# Altium integrated library TI Power Management DC-DC Controller (External Switch).IntLib: 349 symbols (part 15 of 28)
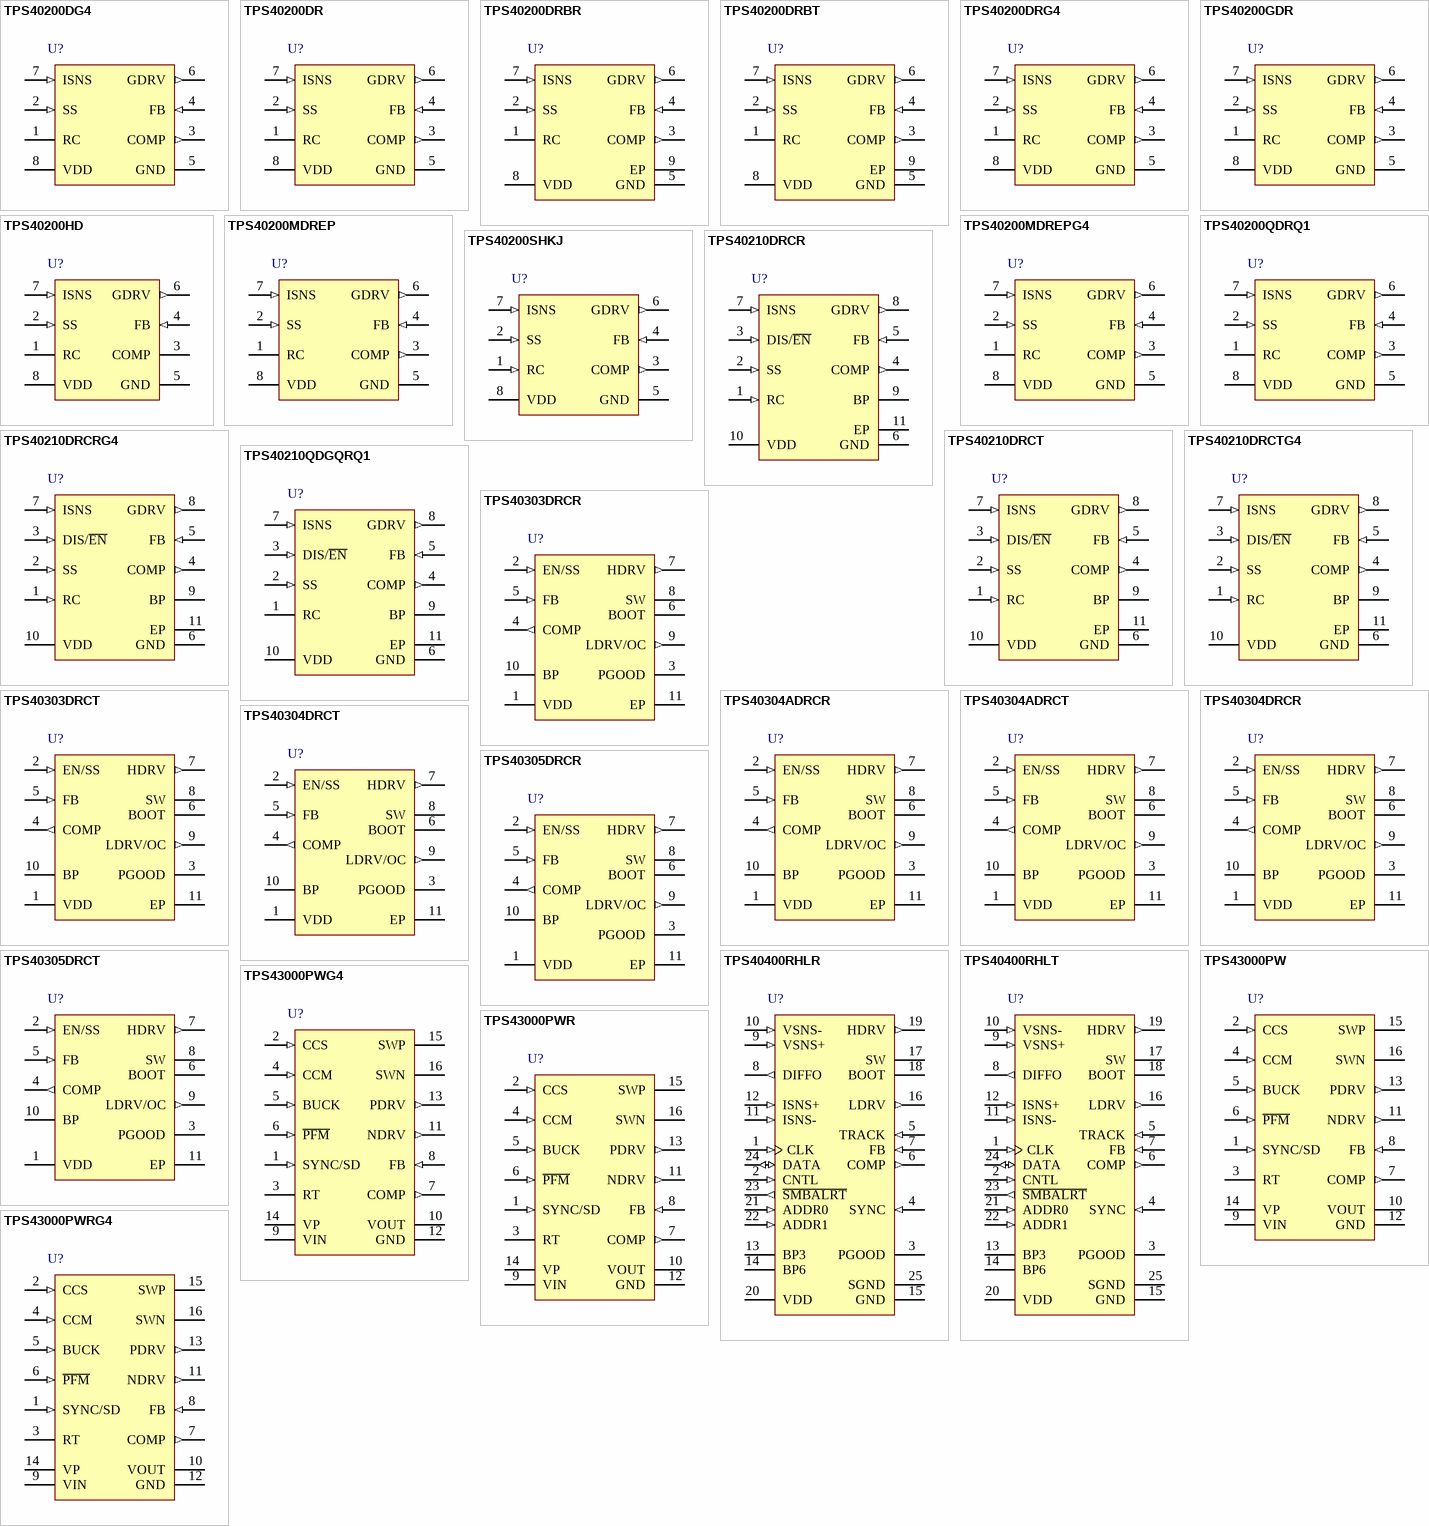
[diagram p28: symbols TPS40200DG4 to TPS43000PWRG4]

## TPS40200GDR
designator U?
Wide Input Non-Synchronous Buck DC / DC Controller, 90 % Duty Cycle, 4.5 to 52 V, -40 to 85 degC, 8-pin SOIC (D), Green (RoHS & no Sb/Br); Manufacturer: Texas Instruments; PartNumber: TPS40200GDR; Duty Cycle(Max)(%): 90; Iout(Max)(A): 3; Regulated Outputs(#): 1; SubFamily: Step-Down Controller; Switching Frequency(Max)(kHz): 500; Vin(Max)(V): 52; Vin(Min)(V): 4.5; Vout(Max)(V): 46; Vout(Min)(V): 0.7; DatasheetVersion: SLUS659F; PackageVersion: revM, Jun-2011; PackageReference: D8; PackageDescription: 8-Pin Plastic Small Outline Integrated Circuit, 4.9 x 3.9 mm, Pitch 1.27 mm Pitch; Supplier 1: Digi-Key; Supplier Part Number 1: 296-30241-2-ND; Supplier 2: Digi-Key; Supplier Part Number 2: 296-30241-1-ND; Supplier 3: Digi-Key; Supplier Part Number 3: 296-30241-6-ND; Supplier 4: Farnell; Supplier Part Number 4: 2095827; Supplier 5: Newark; Supplier Part Number 5: 91T5121; Supplier 6: Newark; Supplier Part Number 6: 87T3987; Supplier 7: Mouser; Supplier Part Number 7: 595-TPS40200GDR; Eco-Plan: Green (RoHS & no Sb/Br); Iout2(A): 3; Topology: Buck; Mounting Technology: Surface Mount; Code_JEDEC: MS-012AA; ComponentLink1Description: Datasheet; ComponentLink1URL: http://www.ti.com/general/docs/lit/getliterature.tsp?genericPartNumber=TPS40200&fileType=pdf; ComponentLink2Description: Package Specification; ComponentLink2URL: http://www.ti.com/litv/pdf/msoi002j
footprint D8_N (SOIC, 8-Leads, Body 4.9x3.9mm, Pitch 1.27mm, IPC Medium Density)
footprint D8_L (SOIC, 8-Leads, Body 4.9x3.9mm, Pitch 1.27mm, IPC High Density)
footprint D8_M (SOIC, 8-Leads, Body 4.9x3.9mm, Pitch 1.27mm, IPC Low Density)
pins: 1 RC "Switching frequency setting RC network. Connect a capacitor from the RC pin to the GND pin and connect a resistor from the VDD pin to the RC pin. The device may be synchronized to an external clock by connecting an open (See Datasheet)", 2 SS (in) "Soft-start programming pin. Connect capacitor from SS to GND to program soft start time. Pulling this pin below 150 mV causes the output switching to stop, placing the device in a shutdown state. The pin also functions as a (See Datasheet)", 3 COMP (out) "Error amplifier output. Connect control loop compensation network from COMP to FB.", 4 FB (in) "Error amplifier inverting input. Connect feedback resistor network center tap to this pin.", 5 GND (power) "Device ground.", 6 GDRV (out) "Driver output for external P-channel MOSFET", 7 ISNS (in) "Current-sense comparator input. Connect a current sense resistor between ISNS and VDD in order to set desired overcurrent threshold.", 8 VDD (power) "System input voltage. Connect local bypass capacitor from VDD to GND."

## TPS40200HD
designator U?
High Temperature Wide Input Non-Synchronous Buck DC / DC Controller, 4.5 to 52 V, -55 to 175 degC, 8-pin SOIC (D), Green (RoHS & no Sb/Br); Manufacturer: Texas Instruments; PartNumber: TPS40200HD; Iout(Max)(A): 3; Regulated Outputs(#): 1; SubFamily: Step-Down Controller; Switching Frequency(Max)(kHz): 500; Vin(Max)(V): 52; Vin(Min)(V): 4.5; Vout(Max)(V): 46; Vout(Min)(V): 0.7; DatasheetVersion: SGLS400B; PackageVersion: revM, Jun-2011; PackageReference: D8; PackageDescription: 8-Pin Plastic Small Outline Integrated Circuit, 4.9 x 3.9 mm, Pitch 1.27 mm Pitch; Supplier 1: Digi-Key; Supplier Part Number 1: 296-28290-5-ND; Supplier 2: Newark; Supplier Part Number 2: 72R6636; Supplier 3: Mouser; Supplier Part Number 3: 595-TPS40200HD; Eco-Plan: Green (RoHS & no Sb/Br); Topology: Buck; Mounting Technology: Surface Mount; Code_JEDEC: MS-012AA; ComponentLink1Description: Datasheet; ComponentLink1URL: http://www.ti.com/general/docs/lit/getliterature.tsp?genericPartNumber=TPS40200-HT&fileType=pdf; ComponentLink2Description: Package Specification; ComponentLink2URL: http://www.ti.com/litv/pdf/msoi002j
footprint D8_N (SOIC, 8-Leads, Body 4.9x3.9mm, Pitch 1.27mm, IPC Medium Density)
footprint D8_L (SOIC, 8-Leads, Body 4.9x3.9mm, Pitch 1.27mm, IPC High Density)
footprint D8_M (SOIC, 8-Leads, Body 4.9x3.9mm, Pitch 1.27mm, IPC Low Density)
pins: 1 RC "Switching frequency-setting RC network. Connect capacitor from RC pin to GND pin and resistor from VIN pin to RC pin. The device may be synchronized to an external clock by connecting an open-drain output to this pin and (See Datasheet)", 2 SS (in) "Soft-start programming pin. Connect capacitor from SS to GND to program soft-start time. Pulling this pin below 150 mV causes the output switching to stop, placing the device in a shutdown state. The pin also functions as a (See Datasheet)", 3 COMP "Compensation. Error amplifier output. Connect control-loop compensation network from COMP to FB.", 4 FB (in) "Feedback. Error amplifier inverting input. Connect feedback resistor network center tap to this pin.", 5 GND (power) "Device ground", 6 GDRV (out) "Driver output for external P-channel MOSFET", 7 ISNS (in) "Output voltage.", 8 VDD (power) "System input voltage. Connect local bypass capacitor from VDD to GND."

## TPS40200MDREP
designator U?
Enhanced Product Wide-Input-Range Non-Synchronous Voltage-Mode Controller, 90 % Duty Cycle, 4.5 to 52 V, -55 to 125 degC, 8-pin SOIC (D), Green (RoHS & no Sb/Br); Manufacturer: Texas Instruments; PartNumber: TPS40200MDREP; Duty Cycle(Max)(%): 90; Iout(Max)(A): 3; Regulated Outputs(#): 1; SubFamily: Step-Down Controller; Topology: Buck; Vin(Max)(V): 52; Vin(Min)(V): 4.5; Vout(Max)(V): 46; Vout(Min)(V): 0.7; DatasheetVersion: SGLS371; PackageVersion: revM, Jun-2011; PackageReference: D8; PackageDescription: 8-Pin Plastic Small Outline Integrated Circuit, 4.9 x 3.9 mm, Pitch 1.27 mm Pitch; Supplier 1: Digi-Key; Supplier Part Number 1: 296-22446-2-ND; Supplier 2: Digi-Key; Supplier Part Number 2: 296-22446-1-ND; Supplier 3: Digi-Key; Supplier Part Number 3: 296-22446-6-ND; Supplier 4: Newark; Supplier Part Number 4: 46M1110; Supplier 5: Newark; Supplier Part Number 5: 66M7864; Supplier 6: Mouser; Supplier Part Number 6: 595-TPS40200MDREP; Eco-Plan: Green (RoHS & no Sb/Br); Mounting Technology: Surface Mount; Code_JEDEC: MS-012AA; ComponentLink1Description: Datasheet; ComponentLink1URL: http://www.ti.com/general/docs/lit/getliterature.tsp?genericPartNumber=TPS40200-EP&fileType=pdf; ComponentLink2Description: Package Specification; ComponentLink2URL: http://www.ti.com/litv/pdf/msoi002j
footprint D8_N (SOIC, 8-Leads, Body 4.9x3.9mm, Pitch 1.27mm, IPC Medium Density)
footprint D8_L (SOIC, 8-Leads, Body 4.9x3.9mm, Pitch 1.27mm, IPC High Density)
footprint D8_M (SOIC, 8-Leads, Body 4.9x3.9mm, Pitch 1.27mm, IPC Low Density)
pins: 1 RC "Switching frequency-setting RC network. Connect capacitor from RC pin to GND pin and resistor from VINpin to RC pin. The device may be synchronized to an external clock by connecting an open-drain output tothis pin and (See Datasheet)", 2 SS (in) "Soft-start programming pin. Connect capacitor from SS to GND to program soft-start time. Pulling this pin SS 2 I below 150 mV causes the output switching to stop, placing the device in a shutdown state. The pin also (See Datasheet)", 3 COMP (out) "Compensation. Error amplifier output. Connect control-loop compensation network from COMP to FB.", 4 FB (in) "Feedback. Error amplifier inverting input. Connect feedback resistor network center tap to this pin.", 5 GND (power) "Device ground", 6 GDRV (out) "Driver output for external P-channel MOSFET", 7 ISNS (in) "Current-sense comparator input , Connect a current sense resistor between ISNS and VDD in order to set desired overcurrent threshold.", 8 VDD (power) "System input voltage. Connect local bypass capacitor from VDD to GND."

## TPS40200MDREPG4
designator U?
Enhanced Product Wide-Input-Range Non-Synchronous Voltage-Mode Controller, 90 % Duty Cycle, 4.5 to 52 V, -55 to 125 degC, 8-pin SOIC (D), Green (RoHS & no Sb/Br); Manufacturer: Texas Instruments; PartNumber: TPS40200MDREPG4; Duty Cycle(Max)(%): 90; Iout(Max)(A): 3; Regulated Outputs(#): 1; SubFamily: Step-Down Controller; Topology: Buck; Vin(Max)(V): 52; Vin(Min)(V): 4.5; Vout(Max)(V): 46; Vout(Min)(V): 0.7; DatasheetVersion: SGLS371; PackageVersion: revM, Jun-2011; PackageReference: D8; PackageDescription: 8-Pin Plastic Small Outline Integrated Circuit, 4.9 x 3.9 mm, Pitch 1.27 mm Pitch; Supplier 1: Digi-Key; Supplier Part Number 1: TPS40200MDREPG4-ND; Supplier 2: Mouser; Supplier Part Number 2: 595-TPS40200MDREPG4; Eco-Plan: Green (RoHS & no Sb/Br); Mounting Technology: Surface Mount; Code_JEDEC: MS-012AA; ComponentLink1Description: Datasheet; ComponentLink1URL: http://www.ti.com/general/docs/lit/getliterature.tsp?genericPartNumber=TPS40200-EP&fileType=pdf; ComponentLink2Description: Package Specification; ComponentLink2URL: http://www.ti.com/litv/pdf/msoi002j
footprint D8_N (SOIC, 8-Leads, Body 4.9x3.9mm, Pitch 1.27mm, IPC Medium Density)
footprint D8_L (SOIC, 8-Leads, Body 4.9x3.9mm, Pitch 1.27mm, IPC High Density)
footprint D8_M (SOIC, 8-Leads, Body 4.9x3.9mm, Pitch 1.27mm, IPC Low Density)
pins: 1 RC "Switching frequency-setting RC network. Connect capacitor from RC pin to GND pin and resistor from VINpin to RC pin. The device may be synchronized to an external clock by connecting an open-drain output tothis pin and (See Datasheet)", 2 SS (in) "Soft-start programming pin. Connect capacitor from SS to GND to program soft-start time. Pulling this pin SS 2 I below 150 mV causes the output switching to stop, placing the device in a shutdown state. The pin also (See Datasheet)", 3 COMP (out) "Compensation. Error amplifier output. Connect control-loop compensation network from COMP to FB.", 4 FB (in) "Feedback. Error amplifier inverting input. Connect feedback resistor network center tap to this pin.", 5 GND (power) "Device ground", 6 GDRV (out) "Driver output for external P-channel MOSFET", 7 ISNS (in) "Current-sense comparator input , Connect a current sense resistor between ISNS and VDD in order to set desired overcurrent threshold.", 8 VDD (power) "System input voltage. Connect local bypass capacitor from VDD to GND."

## TPS40200QDRQ1
designator U?
Automotive Catalog Wide-Input-Range Non-Synchronous Voltage-Mode Controller, 90 % Duty Cycle, 4.5 to 52 V, -40 to 125 degC, 8-pin SOIC (D), Green (RoHS & no Sb/Br); Manufacturer: Texas Instruments; PartNumber: TPS40200QDRQ1; Duty Cycle(Max)(%): 90; Iout(Max)(A): 0.3; Regulated Outputs(#): 1; SubFamily: Step-Down Controller; Switching Frequency(Max)(kHz): 500; Topology: Buck; Vin(Max)(V): 52; Vin(Min)(V): 4.5; Vout(Max)(V): 46; Vout(Min)(V): 0.7; DatasheetVersion: SLUS739D; PackageVersion: revM, Jun-2011; PackageReference: D8; PackageDescription: 8-Pin Plastic Small Outline Integrated Circuit, 4.9 x 3.9 mm, Pitch 1.27 mm Pitch; Supplier 1: Digi-Key; Supplier Part Number 1: 296-23024-2-ND; Supplier 2: Digi-Key; Supplier Part Number 2: 296-23024-1-ND; Supplier 3: Digi-Key; Supplier Part Number 3: 296-23024-6-ND; Supplier 4: Newark; Supplier Part Number 4: 85M0222; Supplier 5: Mouser; Supplier Part Number 5: 595-TPS40200QDRQ1; Eco-Plan: Green (RoHS & no Sb/Br); Mounting Technology: Surface Mount; Code_JEDEC: MS-012AA; ComponentLink1Description: Datasheet; ComponentLink1URL: http://www.ti.com/general/docs/lit/getliterature.tsp?genericPartNumber=TPS40200-Q1&fileType=pdf; ComponentLink2Description: Package Specification; ComponentLink2URL: http://www.ti.com/litv/pdf/msoi002j
footprint D8_N (SOIC, 8-Leads, Body 4.9x3.9mm, Pitch 1.27mm, IPC Medium Density)
footprint D8_L (SOIC, 8-Leads, Body 4.9x3.9mm, Pitch 1.27mm, IPC High Density)
footprint D8_M (SOIC, 8-Leads, Body 4.9x3.9mm, Pitch 1.27mm, IPC Low Density)
pins: 1 RC "Switching frequency setting RC network. Connect capacitor from RC pin to GND pin and resistor from VIN pin to RC pin. The device may be synchronized to an external clock by connecting an open-drain output to this pin and (See Datasheet)", 2 SS (in) "Soft-start programming. Connect capacitor from SS to GND to program soft start time. Pulling this pin below 150 mV causes the output switching to stop, placing the device in a shutdown state. The pin also functions as a (See Datasheet)", 3 COMP (out) "Error amplifier output. Connect control loop compensation network from COMP to FB.", 4 FB (in) "Error amplifier inverting input. Connect feedback resistor network center tap to this pin.", 5 GND (power) "Device ground", 6 GDRV (out) "Driver output for external P-channel MOSFET", 7 ISNS (in) "Current-sense comparator input. Connect a current sense resistor between ISNS and VDD in order to set desired overcurrent threshold.", 8 VDD (power) "System input voltage. Connect local bypass capacitor from VDD to GND."

## TPS40200SHKJ
designator U?
High Temperature Wide Input Non-Synchronous Buck DC / DC Controller, 4.5 to 52 V, -55 to 210 degC, 8-pin CFP (HKJ); Manufacturer: Texas Instruments; PartNumber: TPS40200SHKJ; Eco-Plan: TBD; Iout(Max)(A): 3; Regulated Outputs(#): 1; SubFamily: Step-Down Controller; Switching Frequency(Max)(kHz): 500; Vin(Max)(V): 52; Vin(Min)(V): 4.5; Vout(Max)(V): 46; Vout(Min)(V): 0.7; DatasheetVersion: SGLS400B; PackageVersion: revA, Oct-2008; PackageReference: HKJ8; PackageDescription: 8-Lead Ceramic Dual Flatpack, Body 7.3 x 5.9 mm (LxW max), Pitch 1.27 mm; Supplier 1: Digi-Key; Supplier Part Number 1: 296-28291-5-ND; Supplier 2: Newark; Supplier Part Number 2: 79R8545; Supplier 3: Mouser; Supplier Part Number 3: 595-TPS40200SHKJ; Topology: Buck; Mounting Technology: Surface Mount; ComponentLink1Description: Datasheet; ComponentLink1URL: http://www.ti.com/general/docs/lit/getliterature.tsp?genericPartNumber=TPS40200-HT&fileType=pdf; ComponentLink2Description: Package Specification; ComponentLink2URL: http://www.ti.com/lit/ml/mcdf005/mcdf005.pdf
footprint HKJ8 (DFP, 8 Leads, Body 7x5.6mm, Pitch 1.27mm, Gullwing Leadform)
pins: 1 RC (in) "Switching frequency-setting RC network. Connect capacitor from RC pin to GND pin and resistor from VINpin to RC pin. The device may be synchronized to an external clock by connecting an open-drain output tothis pin and (See Datasheet)", 2 SS (in) "Soft-start programming pin. Connect capacitor from SS to GND to program soft-start time. Pulling this pin SS 2 I below 150 mV causes the output switching to stop, placing the device in a shutdown state. The pin also (See Datasheet)", 3 COMP (out) "Compensation. Error amplifier output. Connect control-loop compensation network from COMP to FB.", 4 FB (in) "Feedback. Error amplifier inverting input. Connect feedback resistor network center tap to this pin.", 5 GND (power) "Device ground", 6 GDRV (out) "Driver output for external P-channel MOSFET", 7 ISNS (in) "Current-sense comparator input , Connect a current sense resistor between ISNS and VDD in order to set desired overcurrent threshold.", 8 VDD (power) "System input voltage. Connect local bypass capacitor from VDD to GND."

## TPS40210DRCR
designator U?
Wide Input Range Current Mode Boost Controller, 95 % Duty Cycle, 4.5 to 52 V, -40 to 125 degC, 10-pin SON (DRC), Green (RoHS & no Sb/Br); Manufacturer: Texas Instruments; PartNumber: TPS40210DRCR; Duty Cycle(Max)(%): 95; Iout(Max)(A): 6; Regulated Outputs(#): 1; SubFamily: Step-Up Controller; Switching Frequency(Max)(kHz): 1000; Vin(Max)(V): 52; Vin(Min)(V): 4.5; Vout(Max)(V): 260; Vout(Min)(V): 5; DatasheetVersion: SLUS772E; PackageVersion: revL, Sep-2011; PackageReference: DRC10-2400X1650TP; PackageDescription: 10-Pin Plastic Small Outline No-Lead, 3 x 3 x 1 mm Body, 0.5 mm Pitch, Exposed Pad; Supplier 1: Digi-Key; Supplier Part Number 1: TPS40210DRCR-ND; Supplier 2: Mouser; Supplier Part Number 2: 595-TPS40210DRCR; Eco-Plan: Green (RoHS & no Sb/Br); Topology: Boost; Mounting Technology: Surface Mount; ComponentLink1Description: Datasheet; ComponentLink1URL: http://www.ti.com/general/docs/lit/getliterature.tsp?genericPartNumber=TPS40210&fileType=pdf; ComponentLink2Description: Package Specification; ComponentLink2URL: http://www.ti.com/litv/pdf/mpds117k
footprint DRC10-2400X1650TP (SON, 10-Leads, Body 3x3mm, Pitch 0.5mm, Thermal Pad 2.4x1.65mm, TI Recommended)
pins: 1 RC (in) "Switching frequency setting pin. Connect a resistor from RC pin to VDD of the IC power supply and a capacitor from RC to GND.", 2 SS (in) "Soft-start time programming pin. Connect capacitor from SS pin to GND to program converter soft-start time. This pin also functions as a timeout timer when the power supply is in an overcurrent condition.", 3 DIS/~{EN} (in) "Disable pin. Pulling this pin high, places the part into a shutdown mode. Shutdown mode is characterized by a very low quiescent current. While in shutdown mode, the functionality of all blocks is disabled and the BP (See Datasheet)", 4 COMP (out) "Error amplifier output. Connect control loop compensation network between COMP pin and FB pin.", 5 FB (in) "Error amplifier inverting input. Connect a voltage divider from the output to this pin to set output voltage. Compensation network is connected between this pin and COMP.", 6 GND (power) "Device ground.", 7 ISNS (in) "Current sense pin. Connect an external current sensing resistor between this pin and GND. The voltage on this pin is used to provide current feedback in the control loop and detect an overcurrent condition. An overcurrent (See Datasheet)", 8 GDRV (out) "Connect the gate of the power N channel MOSFET to this pin.", 9 BP (power) "Regulator output pin. Connect a 1.0-uF bypass capacitor from this pin to GND.", 10 VDD (power) "System input voltage. Connect a local bypass capacitor from this pin to GND. Depending on the amount of required slope compensation, this pin can be connected to the converter output. See Application Information section for (See Datasheet)", 11 EP "Exposed Thermal Pad"

## TPS40210DRCRG4
designator U?
Wide Input Range Current Mode Boost Controller, 95 % Duty Cycle, 4.5 to 52 V, -40 to 125 degC, 10-pin SON (DRC), Green (RoHS & no Sb/Br); Manufacturer: Texas Instruments; PartNumber: TPS40210DRCRG4; Duty Cycle(Max)(%): 95; Iout(Max)(A): 6; Regulated Outputs(#): 1; SubFamily: Step-Up Controller; Switching Frequency(Max)(kHz): 1000; Vin(Max)(V): 52; Vin(Min)(V): 4.5; Vout(Max)(V): 260; Vout(Min)(V): 5; DatasheetVersion: SLUS772E; PackageVersion: revL, Sep-2011; PackageReference: DRC10-2400X1650TP; PackageDescription: 10-Pin Plastic Small Outline No-Lead, 3 x 3 x 1 mm Body, 0.5 mm Pitch, Exposed Pad; Supplier 1: Digi-Key; Supplier Part Number 1: TPS40210DRCRG4-ND; Supplier 2: Newark; Supplier Part Number 2: 03P5187; Supplier 3: Mouser; Supplier Part Number 3: 595-TPS40210DRCRG4; Eco-Plan: Green (RoHS & no Sb/Br); Topology: Boost; Mounting Technology: Surface Mount; ComponentLink1Description: Datasheet; ComponentLink1URL: http://www.ti.com/general/docs/lit/getliterature.tsp?genericPartNumber=TPS40210&fileType=pdf; ComponentLink2Description: Package Specification; ComponentLink2URL: http://www.ti.com/litv/pdf/mpds117k
footprint DRC10-2400X1650TP (SON, 10-Leads, Body 3x3mm, Pitch 0.5mm, Thermal Pad 2.4x1.65mm, TI Recommended)
pins: 1 RC (in) "Switching frequency setting pin. Connect a resistor from RC pin to VDD of the IC power supply and a capacitor from RC to GND.", 2 SS (in) "Soft-start time programming pin. Connect capacitor from SS pin to GND to program converter soft-start time. This pin also functions as a timeout timer when the power supply is in an overcurrent condition.", 3 DIS/~{EN} (in) "Disable pin. Pulling this pin high, places the part into a shutdown mode. Shutdown mode is characterized by a very low quiescent current. While in shutdown mode, the functionality of all blocks is disabled and the BP (See Datasheet)", 4 COMP (out) "Error amplifier output. Connect control loop compensation network between COMP pin and FB pin.", 5 FB (in) "Error amplifier inverting input. Connect a voltage divider from the output to this pin to set output voltage. Compensation network is connected between this pin and COMP.", 6 GND (power) "Device ground.", 7 ISNS (in) "Current sense pin. Connect an external current sensing resistor between this pin and GND. The voltage on this pin is used to provide current feedback in the control loop and detect an overcurrent condition. An overcurrent (See Datasheet)", 8 GDRV (out) "Connect the gate of the power N channel MOSFET to this pin.", 9 BP (power) "Regulator output pin. Connect a 1.0-uF bypass capacitor from this pin to GND.", 10 VDD (power) "System input voltage. Connect a local bypass capacitor from this pin to GND. Depending on the amount of required slope compensation, this pin can be connected to the converter output. See Application Information section for (See Datasheet)", 11 EP "Exposed Thermal Pad"

## TPS40210DRCT
designator U?
Wide Input Range Current Mode Boost Controller, 95 % Duty Cycle, 4.5 to 52 V, -40 to 125 degC, 10-pin SON (DRC), Green (RoHS & no Sb/Br); Manufacturer: Texas Instruments; PartNumber: TPS40210DRCT; Duty Cycle(Max)(%): 95; Iout(Max)(A): 6; Regulated Outputs(#): 1; SubFamily: Step-Up Controller; Switching Frequency(Max)(kHz): 1000; Vin(Max)(V): 52; Vin(Min)(V): 4.5; Vout(Max)(V): 260; Vout(Min)(V): 5; DatasheetVersion: SLUS772E; PackageVersion: revL, Sep-2011; PackageReference: DRC10-2400X1650TP; PackageDescription: 10-Pin Plastic Small Outline No-Lead, 3 x 3 x 1 mm Body, 0.5 mm Pitch, Exposed Pad; Supplier 1: Digi-Key; Supplier Part Number 1: 296-23413-2-ND; Supplier 2: Digi-Key; Supplier Part Number 2: 296-23413-1-ND; Supplier 3: Digi-Key; Supplier Part Number 3: 296-23413-6-ND; Supplier 4: Farnell; Supplier Part Number 4: 1755635; Supplier 5: Newark; Supplier Part Number 5: 94T6070; Supplier 6: Newark; Supplier Part Number 6: 11N9829; Supplier 7: Mouser; Supplier Part Number 7: 595-TPS40210DRCT; Eco-Plan: Green (RoHS & no Sb/Br); Topology: Boost; Mounting Technology: Surface Mount; ComponentLink1Description: Datasheet; ComponentLink1URL: http://www.ti.com/general/docs/lit/getliterature.tsp?genericPartNumber=TPS40210&fileType=pdf; ComponentLink2Description: Package Specification; ComponentLink2URL: http://www.ti.com/litv/pdf/mpds117k
footprint DRC10-2400X1650TP (SON, 10-Leads, Body 3x3mm, Pitch 0.5mm, Thermal Pad 2.4x1.65mm, TI Recommended)
pins: 1 RC (in) "Switching frequency setting pin. Connect a resistor from RC pin to VDD of the IC power supply and a capacitor from RC to GND.", 2 SS (in) "Soft-start time programming pin. Connect capacitor from SS pin to GND to program converter soft-start time. This pin also functions as a timeout timer when the power supply is in an overcurrent condition.", 3 DIS/~{EN} (in) "Disable pin. Pulling this pin high, places the part into a shutdown mode. Shutdown mode is characterized by a very low quiescent current. While in shutdown mode, the functionality of all blocks is disabled and the BP (See Datasheet)", 4 COMP (out) "Error amplifier output. Connect control loop compensation network between COMP pin and FB pin.", 5 FB (in) "Error amplifier inverting input. Connect a voltage divider from the output to this pin to set output voltage. Compensation network is connected between this pin and COMP.", 6 GND (power) "Device ground.", 7 ISNS (in) "Current sense pin. Connect an external current sensing resistor between this pin and GND. The voltage on this pin is used to provide current feedback in the control loop and detect an overcurrent condition. An overcurrent (See Datasheet)", 8 GDRV (out) "Connect the gate of the power N channel MOSFET to this pin.", 9 BP (power) "Regulator output pin. Connect a 1.0-uF bypass capacitor from this pin to GND.", 10 VDD (power) "System input voltage. Connect a local bypass capacitor from this pin to GND. Depending on the amount of required slope compensation, this pin can be connected to the converter output. See Application Information section for (See Datasheet)", 11 EP "Exposed Thermal Pad"

## TPS40210DRCTG4
designator U?
Wide Input Range Current Mode Boost Controller, 95 % Duty Cycle, 4.5 to 52 V, -40 to 125 degC, 10-pin SON (DRC), Green (RoHS & no Sb/Br); Manufacturer: Texas Instruments; PartNumber: TPS40210DRCTG4; Duty Cycle(Max)(%): 95; Iout(Max)(A): 6; Regulated Outputs(#): 1; SubFamily: Step-Up Controller; Switching Frequency(Max)(kHz): 1000; Vin(Max)(V): 52; Vin(Min)(V): 4.5; Vout(Max)(V): 260; Vout(Min)(V): 5; DatasheetVersion: SLUS772E; PackageVersion: revL, Sep-2011; PackageReference: DRC10-2400X1650TP; PackageDescription: 10-Pin Plastic Small Outline No-Lead, 3 x 3 x 1 mm Body, 0.5 mm Pitch, Exposed Pad; Supplier 1: Digi-Key; Supplier Part Number 1: TPS40210DRCTG4-ND; Supplier 2: Newark; Supplier Part Number 2: 34P6491; Supplier 3: Mouser; Supplier Part Number 3: 595-TPS40210DRCTG4; Eco-Plan: Green (RoHS & no Sb/Br); Topology: Boost; Mounting Technology: Surface Mount; ComponentLink1Description: Datasheet; ComponentLink1URL: http://www.ti.com/general/docs/lit/getliterature.tsp?genericPartNumber=TPS40210&fileType=pdf; ComponentLink2Description: Package Specification; ComponentLink2URL: http://www.ti.com/litv/pdf/mpds117k
footprint DRC10-2400X1650TP (SON, 10-Leads, Body 3x3mm, Pitch 0.5mm, Thermal Pad 2.4x1.65mm, TI Recommended)
pins: 1 RC (in) "Switching frequency setting pin. Connect a resistor from RC pin to VDD of the IC power supply and a capacitor from RC to GND.", 2 SS (in) "Soft-start time programming pin. Connect capacitor from SS pin to GND to program converter soft-start time. This pin also functions as a timeout timer when the power supply is in an overcurrent condition.", 3 DIS/~{EN} (in) "Disable pin. Pulling this pin high, places the part into a shutdown mode. Shutdown mode is characterized by a very low quiescent current. While in shutdown mode, the functionality of all blocks is disabled and the BP (See Datasheet)", 4 COMP (out) "Error amplifier output. Connect control loop compensation network between COMP pin and FB pin.", 5 FB (in) "Error amplifier inverting input. Connect a voltage divider from the output to this pin to set output voltage. Compensation network is connected between this pin and COMP.", 6 GND (power) "Device ground.", 7 ISNS (in) "Current sense pin. Connect an external current sensing resistor between this pin and GND. The voltage on this pin is used to provide current feedback in the control loop and detect an overcurrent condition. An overcurrent (See Datasheet)", 8 GDRV (out) "Connect the gate of the power N channel MOSFET to this pin.", 9 BP (power) "Regulator output pin. Connect a 1.0-uF bypass capacitor from this pin to GND.", 10 VDD (power) "System input voltage. Connect a local bypass capacitor from this pin to GND. Depending on the amount of required slope compensation, this pin can be connected to the converter output. See Application Information section for (See Datasheet)", 11 EP "Exposed Thermal Pad"

## TPS40210QDGQRQ1
designator U?
Automotive Catalog Wide Input Range Current Mode Boost Controller, 4.5 to 52 V, -40 to 125 degC, 10-pin MSOP-PowerPAD (DGQ), Green (RoHS & no Sb/Br); Manufacturer: Texas Instruments; PartNumber: TPS40210QDGQRQ1; Duty Cycle(Max)(%): 100; Iout(Max)(A): 0.5; Regulated Outputs(#): 1; SubFamily: Step-Down Controller; Switching Frequency(Max)(kHz): 300; Topology: Buck; Vin(Max)(V): 35; Vin(Min)(V): 4.2; Vout(Max)(V): 30; Vout(Min)(V): 1.5; DatasheetVersion: SLVS861D; PackageVersion: revF, Nov-2011; PackageReference: DGQ10-1675X1445TP; PackageDescription: 10-Pin PowerPAD Plastic Small Outline 0.5 mm Pitch, Exposed Pad; Supplier 1: Digi-Key; Supplier Part Number 1: 296-23878-2-ND; Supplier 2: Digi-Key; Supplier Part Number 2: 296-23878-1-ND; Supplier 3: Digi-Key; Supplier Part Number 3: 296-23878-6-ND; Supplier 4: Newark; Supplier Part Number 4: 12P8031; Supplier 5: Mouser; Supplier Part Number 5: 595-TPS40210QDGQRQ1; Eco-Plan: Green (RoHS & no Sb/Br); Mounting Technology: Surface Mount; Code_JEDEC: MO-187-BA-T; ComponentLink1Description: Datasheet; ComponentLink1URL: http://www.ti.com/general/docs/lit/getliterature.tsp?genericPartNumber=TPS40210-Q1&fileType=pdf; ComponentLink2Description: Package Specification; ComponentLink2URL: http://www.ti.com/lit/ml/mpds043e/mpds043e.pdf
footprint DGQ10-1675X1445TP_N (TSSOP, 10-Leads, Body 3x3mm, Pitch 0.5mm, Thermal Pad 1.88x1.57mm, IPC Medium Density)
footprint DGQ10-1675X1445TP_L (TSSOP, 10-Leads, Body 3x3mm, Pitch 0.5mm, Thermal Pad 1.88x1.57mm, IPC High Density)
footprint DGQ10-1675X1445TP_M (TSSOP, 10-Leads, Body 3x3mm, Pitch 0.5mm, Thermal Pad 1.88x1.57mm, IPC Low Density)
pins: 1 RC "Switching frequency setting. Connect capacitor from RC pin to GND. Connect a resistor from RC pin to VDD of the IC power supply and a capacitor from RC to GND.", 2 SS (in) "Soft-start time programming. Connect capacitor from SS pin to GND to program converter soft-start time.This pin also functions as a timeout timer when the power supply is in an overcurrent condition.", 3 DIS/~{EN} (in) "Disable/enable. Pulling this pin high places the part into a shutdown mode. Shutdown mode is characterized by a very low quiescent current. While in shutdown mode, the functionality of all blocks is disabled, and the BP (See Datasheet)", 4 COMP (out) "Error amplifier output. Connect control loop compensation network between COMP pin and FB pin.", 5 FB (in) "Error amplifier inverting input. Connect a voltage divider from the output to this pin to set the output voltage.Compensation network is connected between this pin and COMP.", 6 GND (power) "Device ground", 7 ISNS (in) "Current sense. Connect an external current sensing resistor between this pin and GND. The voltage on this pin is used to provide current feedback in the control loop and detect an overcurrent condition. An overcurrent (See Datasheet)", 8 GDRV (out) "Connect the gate of the power N-channel MOSFET to this pin.", 9 BP (power) "Regulator output. Connect a 1.0-uF bypass capacitor from this pin to GND.", 10 VDD (power) "System input voltage. Connect a local bypass capacitor from this pin to GND. Depending on the amount of required slope compensation, this pin can be connected to the converter output. See Application Information section for (See Datasheet)", 11 EP (power) "Thermal Pad"

## TPS40303DRCR
designator U?
3 to 20 V Wide Input Synchronous Buck Controller for High Power Density, High Efficiency, 300 kHz, 90 % Duty Cycle, -40 to 125 degC, 10-pin SON (DRC), Green (RoHS & no Sb/Br); Manufacturer: Texas Instruments; PartNumber: TPS40303DRCR; Duty Cycle(Max)(%): 90; Iout(Max)(A): 25; Regulated Outputs(#): 1; SubFamily: Step-Down Controller; Switching Frequency(Max)(kHz): 300; Synchronous Rectification: TRUE; Vin(Max)(V): 20; Vin(Min)(V): 3; Vout(Max)(V): 18; DatasheetVersion: SLUS964; PackageVersion: revL, Sep-2011; PackageReference: DRC10-2400X1650TP; PackageDescription: 10-Pin Plastic Small Outline No-Lead, 3 x 3 x 1 mm Body, 0.5 mm Pitch, Exposed Pad; Supplier 1: Digi-Key; Supplier Part Number 1: TPS40303DRCR-ND; Supplier 2: Newark; Supplier Part Number 2: 64R0740; Supplier 3: Mouser; Supplier Part Number 3: 595-TPS40303DRCR; Eco-Plan: Green (RoHS & no Sb/Br); Topology: Buck; Mounting Technology: Surface Mount; ComponentLink1Description: Datasheet; ComponentLink1URL: http://www.ti.com/general/docs/lit/getliterature.tsp?genericPartNumber=TPS40303&fileType=pdf; ComponentLink2Description: Package Specification; ComponentLink2URL: http://www.ti.com/litv/pdf/mpds117k
footprint DRC10-2400X1650TP (SON, 10-Leads, Body 3x3mm, Pitch 0.5mm, Thermal Pad 2.4x1.65mm, TI Recommended)
pins: 1 VDD (power) "Power input to the controller. Bypass VDD to GND with a low ESR ceramic capacitor of at least 1.0-µF close to the device", 2 EN/SS (in) "Logic level input which starts or stops the controller via an external user command. Letting this pin float turns the controller on. Pulling this pin low disables the controller. This is also the soft-start programming pin. (See Datasheet)", 3 PGOOD (oc) "Open drain power good output.", 4 COMP (out) "Output of the error amplifier and connection node for loop feedback components.", 5 FB (in) "Inverting input to the error amplifier. In normal operation, the voltage on this pin is equal to the internal reference voltage", 6 BOOT (power) "Gate drive voltage for the high side N-channel MOSFET. A 100 nF capacitor (typical) must be connected between this pin and SW. For low input voltage operation, an external schottky diode from BP to BOOT is recommended to (See Datasheet)", 7 HDRV (out) "Bootstrapped gate drive output for the high side N-channel MOSFET.", 8 SW (power) "Sense line for the adaptive anti-cross conduction circuitry. Serves as common connection for the flying high side FET driver", 9 LDRV/OC (out) "Gate drive output for the low side synchronous rectifier N-channel MOSFET. A resistor from this pin to GND is also used to determine the voltage level for OCP. An internal current source of 10 µA flows through the resistor (See Datasheet)", 10 BP (power) "Output bypass for the internal regulator. Connect a low ESR bypass ceramic capacitor of 1 µF or greater from this pin to GND", 11 EP (power) "Ground connection to the controller. This is also the thermal pad used to conduct heat from the device. This Thermal connection serves a twofold purpose. The first is to provide an electrical ground connection for the device.(See Datasheet)"

## TPS40303DRCT
designator U?
3 to 20 V Wide Input Synchronous Buck Controller for High Power Density, High Efficiency, 300 kHz, 90 % Duty Cycle, -40 to 125 degC, 10-pin SON (DRC), Green (RoHS & no Sb/Br); Manufacturer: Texas Instruments; PartNumber: TPS40303DRCT; Duty Cycle(Max)(%): 90; Iout(Max)(A): 25; Regulated Outputs(#): 1; SubFamily: Step-Down Controller; Switching Frequency(Max)(kHz): 300; Synchronous Rectification: TRUE; Vin(Max)(V): 20; Vin(Min)(V): 3; Vout(Max)(V): 18; DatasheetVersion: SLUS964; PackageVersion: revL, Sep-2011; PackageReference: DRC10-2400X1650TP; PackageDescription: 10-Pin Plastic Small Outline No-Lead, 3 x 3 x 1 mm Body, 0.5 mm Pitch, Exposed Pad; Supplier 1: Digi-Key; Supplier Part Number 1: 296-25485-2-ND; Supplier 2: Digi-Key; Supplier Part Number 2: 296-25485-1-ND; Supplier 3: Digi-Key; Supplier Part Number 3: 296-25485-6-ND; Supplier 4: Newark; Supplier Part Number 4: 64R0741; Supplier 5: Mouser; Supplier Part Number 5: 595-TPS40303DRCT; Eco-Plan: Green (RoHS & no Sb/Br); Topology: Buck; Mounting Technology: Surface Mount; ComponentLink1Description: Datasheet; ComponentLink1URL: http://www.ti.com/general/docs/lit/getliterature.tsp?genericPartNumber=TPS40303&fileType=pdf; ComponentLink2Description: Package Specification; ComponentLink2URL: http://www.ti.com/litv/pdf/mpds117k
footprint DRC10-2400X1650TP (SON, 10-Leads, Body 3x3mm, Pitch 0.5mm, Thermal Pad 2.4x1.65mm, TI Recommended)
pins: 1 VDD (power) "Power input to the controller. Bypass VDD to GND with a low ESR ceramic capacitor of at least 1.0-µF close to the device", 2 EN/SS (in) "Logic level input which starts or stops the controller via an external user command. Letting this pin float turns the controller on. Pulling this pin low disables the controller. This is also the soft-start programming pin. (See Datasheet)", 3 PGOOD (oc) "Open drain power good output.", 4 COMP (out) "Output of the error amplifier and connection node for loop feedback components.", 5 FB (in) "Inverting input to the error amplifier. In normal operation, the voltage on this pin is equal to the internal reference voltage", 6 BOOT (power) "Gate drive voltage for the high side N-channel MOSFET. A 100 nF capacitor (typical) must be connected between this pin and SW. For low input voltage operation, an external schottky diode from BP to BOOT is recommended to (See Datasheet)", 7 HDRV (out) "Bootstrapped gate drive output for the high side N-channel MOSFET.", 8 SW (power) "Sense line for the adaptive anti-cross conduction circuitry. Serves as common connection for the flying high side FET driver", 9 LDRV/OC (out) "Gate drive output for the low side synchronous rectifier N-channel MOSFET. A resistor from this pin to GND is also used to determine the voltage level for OCP. An internal current source of 10 µA flows through the resistor (See Datasheet)", 10 BP (power) "Output bypass for the internal regulator. Connect a low ESR bypass ceramic capacitor of 1 µF or greater from this pin to GND", 11 EP (power) "Ground connection to the controller. This is also the thermal pad used to conduct heat from the device. This Thermal connection serves a twofold purpose. The first is to provide an electrical ground connection for the device.(See Datasheet)"

## TPS40304ADRCR
designator U?
3 to 20 V Wide Input Synchronous Buck Controller for High Power Density, 600 kHz, 591 mV 1 % Reference, 90 % Duty Cycle, 3 to 20 V, 10-pin SON (DRC), Green (RoHS & no Sb/Br); Manufacturer: Texas Instruments; PartNumber: TPS40304ADRCR; Duty Cycle(Max)(%): 90; Iout(Max)(A): 25; Regulated Outputs(#): 1; SubFamily: Step-Down Controller; Switching Frequency(Max)(kHz): 600; Vin(Max)(V): 20; Vin(Min)(V): 3; Vout(Max)(V): 18; DatasheetVersion: SLUSA30; PackageVersion: revL, Sep-2011; PackageReference: DRC10-2400X1650TP; PackageDescription: 10-Pin Plastic Small Outline No-Lead, 3 x 3 x 1 mm Body, 0.5 mm Pitch, Exposed Pad; Supplier 1: Digi-Key; Supplier Part Number 1: 296-27478-2-ND; Supplier 2: Digi-Key; Supplier Part Number 2: 296-27478-1-ND; Supplier 3: Digi-Key; Supplier Part Number 3: 296-27478-6-ND; Supplier 4: Newark; Supplier Part Number 4: 79R8548; Supplier 5: Mouser; Supplier Part Number 5: 595-TPS40304ADRCR; Eco-Plan: Green (RoHS & no Sb/Br); Topology: Buck; Mounting Technology: Surface Mount; ComponentLink1Description: Datasheet; ComponentLink1URL: http://www.ti.com/general/docs/lit/getliterature.tsp?genericPartNumber=TPS40304A&fileType=pdf; ComponentLink2Description: Package Specification; ComponentLink2URL: http://www.ti.com/litv/pdf/mpds117k
footprint DRC10-2400X1650TP (SON, 10-Leads, Body 3x3mm, Pitch 0.5mm, Thermal Pad 2.4x1.65mm, TI Recommended)
pins: 1 VDD (power) "Power input to the controller. Bypass VDD to GND with a low ESR ceramic capacitor of at least 1.0-µF close to the device.", 2 EN/SS (in) "Logic level input which starts or stops the controller via an external user command. Letting this pin float turns the controller on. Pulling this pin low disables the controller. This is also the soft-start programming pin. (See Datasheet)", 3 PGOOD (oc) "Open drain power good output.", 4 COMP (out) "Output of the error amplifier and connection node for loop feedback components.", 5 FB (in) "Inverting input to the error amplifier. In normal operation, the voltage on this pin is equal to the internal reference voltage.", 6 BOOT (power) "Gate drive voltage for the high-side N-channel MOSFET. A 100 nF capacitor (typical) must be connected between this pin and SW. For low input voltage operation, an external schottky diode from BP to BOOT is recommended to (See Datasheet)", 7 HDRV (out) "Bootstrapped gate drive output for the high-side N-channel MOSFET.", 8 SW (power) "Sense line for the adaptive anti-cross conduction circuitry. Serves as common connection for the flying high-side FET driver.", 9 LDRV/OC (out) "Gate drive output for the low-side synchronous rectifier N-channel MOSFET. A resistor from this pin to GND is also used to determine the voltage level for OCP. An internal current source of 10 µA flows through the resistor (See Datasheet)", 10 BP (power) "Output bypass for the internal regulator. Connect a low ESR bypass ceramic capacitor of 1 µF or greater from this pin to GND.", 11 EP (power) "Ground connection to the controller. This is also the thermal pad used to conduct heat from the device. This connection serves a twofold purpose. The first is to provide an electrical ground connection for the device. The (See Datasheet)"

## TPS40304ADRCT
designator U?
3 to 20 V Wide Input Synchronous Buck Controller for High Power Density, 600 kHz, 591 mV 1 % Reference, 90 % Duty Cycle, 3 to 20 V, 10-pin SON (DRC), Green (RoHS & no Sb/Br); Manufacturer: Texas Instruments; PartNumber: TPS40304ADRCT; Duty Cycle(Max)(%): 90; Iout(Max)(A): 25; Regulated Outputs(#): 1; SubFamily: Step-Down Controller; Switching Frequency(Max)(kHz): 600; Vin(Max)(V): 20; Vin(Min)(V): 3; Vout(Max)(V): 18; DatasheetVersion: SLUSA30; PackageVersion: revL, Sep-2011; PackageReference: DRC10-2400X1650TP; PackageDescription: 10-Pin Plastic Small Outline No-Lead, 3 x 3 x 1 mm Body, 0.5 mm Pitch, Exposed Pad; Supplier 1: Digi-Key; Supplier Part Number 1: TPS40304ADRCT-ND; Supplier 2: Newark; Supplier Part Number 2: 79R8549; Supplier 3: Mouser; Supplier Part Number 3: 595-TPS40304ADRCT; Eco-Plan: Green (RoHS & no Sb/Br); Topology: Buck; Mounting Technology: Surface Mount; ComponentLink1Description: Datasheet; ComponentLink1URL: http://www.ti.com/general/docs/lit/getliterature.tsp?genericPartNumber=TPS40304A&fileType=pdf; ComponentLink2Description: Package Specification; ComponentLink2URL: http://www.ti.com/litv/pdf/mpds117k
footprint DRC10-2400X1650TP (SON, 10-Leads, Body 3x3mm, Pitch 0.5mm, Thermal Pad 2.4x1.65mm, TI Recommended)
pins: 1 VDD (power) "Power input to the controller. Bypass VDD to GND with a low ESR ceramic capacitor of at least 1.0-µF close to the device.", 2 EN/SS (in) "Logic level input which starts or stops the controller via an external user command. Letting this pin float turns the controller on. Pulling this pin low disables the controller. This is also the soft-start programming pin. (See Datasheet)", 3 PGOOD (oc) "Open drain power good output.", 4 COMP (out) "Output of the error amplifier and connection node for loop feedback components.", 5 FB (in) "Inverting input to the error amplifier. In normal operation, the voltage on this pin is equal to the internal reference voltage.", 6 BOOT (power) "Gate drive voltage for the high-side N-channel MOSFET. A 100 nF capacitor (typical) must be connected between this pin and SW. For low input voltage operation, an external schottky diode from BP to BOOT is recommended to (See Datasheet)", 7 HDRV (out) "Bootstrapped gate drive output for the high-side N-channel MOSFET.", 8 SW (power) "Sense line for the adaptive anti-cross conduction circuitry. Serves as common connection for the flying high-side FET driver.", 9 LDRV/OC (out) "Gate drive output for the low-side synchronous rectifier N-channel MOSFET. A resistor from this pin to GND is also used to determine the voltage level for OCP. An internal current source of 10 µA flows through the resistor (See Datasheet)", 10 BP (power) "Output bypass for the internal regulator. Connect a low ESR bypass ceramic capacitor of 1 µF or greater from this pin to GND.", 11 EP (power) "Ground connection to the controller. This is also the thermal pad used to conduct heat from the device. This connection serves a twofold purpose. The first is to provide an electrical ground connection for the device. The (See Datasheet)"

## TPS40304DRCR
designator U?
3 to 20 V Wide Input Synchronous Buck Controller for High Power Density, 600 kHz, 600 mV 1 % Reference, 90 % Duty Cycle, -40 to 125 degC, 10-pin SON (DRC), Green (RoHS & no Sb/Br); Manufacturer: Texas Instruments; PartNumber: TPS40304DRCR; Duty Cycle(Max)(%): 90; Iout(Max)(A): 25; Regulated Outputs(#): 1; SubFamily: Step-Down Controller; Switching Frequency(Max)(kHz): 600; Synchronous Rectification: TRUE; Vin(Max)(V): 20; Vin(Min)(V): 3; Vout(Max)(V): 18; DatasheetVersion: SLUS964; PackageVersion: revL, Sep-2011; PackageReference: DRC10-2400X1650TP; PackageDescription: 10-Pin Plastic Small Outline No-Lead, 3 x 3 x 1 mm Body, 0.5 mm Pitch, Exposed Pad; Supplier 1: Digi-Key; Supplier Part Number 1: TPS40304DRCR-ND; Supplier 2: Newark; Supplier Part Number 2: 64R0742; Supplier 3: Mouser; Supplier Part Number 3: 595-TPS40304DRCR; Eco-Plan: Green (RoHS & no Sb/Br); Topology: Buck; Mounting Technology: Surface Mount; ComponentLink1Description: Datasheet; ComponentLink1URL: http://www.ti.com/general/docs/lit/getliterature.tsp?genericPartNumber=TPS40304&fileType=pdf; ComponentLink2Description: Package Specification; ComponentLink2URL: http://www.ti.com/litv/pdf/mpds117k
footprint DRC10-2400X1650TP (SON, 10-Leads, Body 3x3mm, Pitch 0.5mm, Thermal Pad 2.4x1.65mm, TI Recommended)
pins: 1 VDD (power) "Power input to the controller. Bypass VDD to GND with a low ESR ceramic capacitor of at least 1.0-µF close to the device", 2 EN/SS (in) "Logic level input which starts or stops the controller via an external user command. Letting this pin float turns the controller on. Pulling this pin low disables the controller. This is also the soft-start programming pin. (See Datasheet)", 3 PGOOD (oc) "Open drain power good output.", 4 COMP (out) "Output of the error amplifier and connection node for loop feedback components", 5 FB (in) "Inverting input to the error amplifier. In normal operation, the voltage on this pin is equal to the internal reference voltage", 6 BOOT (power) "Gate drive voltage for the high side N-channel MOSFET. A 100 nF capacitor (typical) must be connected between this pin and SW. For low input voltage operation, an external schottky diode from BP to BOOT is recommended to (See Datasheet)", 7 HDRV (out) "Bootstrapped gate drive output for the high side N-channel MOSFET", 8 SW (power) "Sense line for the adaptive anti-cross conduction circuitry. Serves as common connection for the flying high side FET driver", 9 LDRV/OC (out) "Gate drive output for the low side synchronous rectifier N-channel MOSFET. A resistor from this pin to GND is also used to determine the voltage level for OCP. An internal current source of 10 µA flows through the resistor (See Datasheet)", 10 BP (power) "Output bypass for the internal regulator. Connect a low ESR bypass ceramic capacitor of 1 µF or greater from this pin to GND", 11 EP (power) "Ground connection to the controller. This is also the thermal pad used to conduct heat from the device. This Thermal connection serves a twofold purpose. The first is to provide an electrical ground connection for the device.(See Datasheet)"

## TPS40304DRCT
designator U?
3 to 20 V Wide Input Synchronous Buck Controller for High Power Density, 600 kHz, 600 mV 1 % Reference, 90 % Duty Cycle, -40 to 125 degC, 10-pin SON (DRC), Green (RoHS & no Sb/Br); Manufacturer: Texas Instruments; PartNumber: TPS40304DRCT; Duty Cycle(Max)(%): 90; Iout(Max)(A): 25; Regulated Outputs(#): 1; SubFamily: Step-Down Controller; Switching Frequency(Max)(kHz): 600; Synchronous Rectification: TRUE; Vin(Max)(V): 20; Vin(Min)(V): 3; Vout(Max)(V): 18; DatasheetVersion: SLUS964; PackageVersion: revL, Sep-2011; PackageReference: DRC10-2400X1650TP; PackageDescription: 10-Pin Plastic Small Outline No-Lead, 3 x 3 x 1 mm Body, 0.5 mm Pitch, Exposed Pad; Supplier 1: Digi-Key; Supplier Part Number 1: 296-25486-2-ND; Supplier 2: Digi-Key; Supplier Part Number 2: 296-25486-1-ND; Supplier 3: Digi-Key; Supplier Part Number 3: 296-25486-6-ND; Supplier 4: Farnell; Supplier Part Number 4: 1815768; Supplier 5: Newark; Supplier Part Number 5: 55R1362; Supplier 6: Mouser; Supplier Part Number 6: 595-TPS40304DRCT; Eco-Plan: Green (RoHS & no Sb/Br); Topology: Buck; Mounting Technology: Surface Mount; ComponentLink1Description: Datasheet; ComponentLink1URL: http://www.ti.com/general/docs/lit/getliterature.tsp?genericPartNumber=TPS40304&fileType=pdf; ComponentLink2Description: Package Specification; ComponentLink2URL: http://www.ti.com/litv/pdf/mpds117k
footprint DRC10-2400X1650TP (SON, 10-Leads, Body 3x3mm, Pitch 0.5mm, Thermal Pad 2.4x1.65mm, TI Recommended)
pins: 1 VDD (power) "Power input to the controller. Bypass VDD to GND with a low ESR ceramic capacitor of at least 1.0-µF close to the device", 2 EN/SS (in) "Logic level input which starts or stops the controller via an external user command. Letting this pin float turns the controller on. Pulling this pin low disables the controller. This is also the soft-start programming pin. (See Datasheet)", 3 PGOOD (oc) "Open drain power good output.", 4 COMP (out) "Output of the error amplifier and connection node for loop feedback components", 5 FB (in) "Inverting input to the error amplifier. In normal operation, the voltage on this pin is equal to the internal reference voltage", 6 BOOT (power) "Gate drive voltage for the high side N-channel MOSFET. A 100 nF capacitor (typical) must be connected between this pin and SW. For low input voltage operation, an external schottky diode from BP to BOOT is recommended to (See Datasheet)", 7 HDRV (out) "Bootstrapped gate drive output for the high side N-channel MOSFET", 8 SW (power) "Sense line for the adaptive anti-cross conduction circuitry. Serves as common connection for the flying high side FET driver", 9 LDRV/OC (out) "Gate drive output for the low side synchronous rectifier N-channel MOSFET. A resistor from this pin to GND is also used to determine the voltage level for OCP. An internal current source of 10 µA flows through the resistor (See Datasheet)", 10 BP (power) "Output bypass for the internal regulator. Connect a low ESR bypass ceramic capacitor of 1 µF or greater from this pin to GND", 11 EP (power) "Ground connection to the controller. This is also the thermal pad used to conduct heat from the device. This Thermal connection serves a twofold purpose. The first is to provide an electrical ground connection for the device.(See Datasheet)"